# Altium schematic symbol library DRV8703QRHBRQ1.SchLib: 1 symbol
Pins are listed as number, name and electrical type; pins without a type are passive.

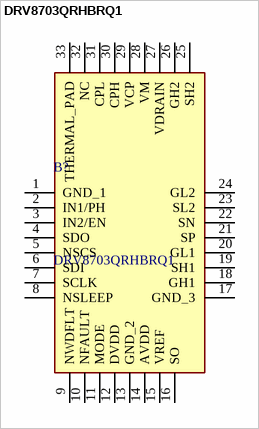
[diagram p0: symbol DRV8703QRHBRQ1]

## DRV8703QRHBRQ1
designator B?
Automotive Brushed DC Gate Driver; Manufacturer_Name: Texas Instruments; Geometry.Height: 0.9mm; Manufacturer_Part_Number: DRV8703QRHBRQ1; Mouser Part Number: 595-DRV8703QRHBRQ1; Mouser Price/Stock: https://www.mouser.co.uk/ProductDetail/Texas-Instruments/DRV8703QRHBRQ1?qs=%2FP2Ij7fVdhHVZvt8gQ%252BCWA%3D%3D; Arrow Part Number: DRV8703QRHBRQ1; Arrow Price/Stock: https://www.arrow.com/en/products/drv8703qrhbrq1/texas-instruments?region=nac; Datasheet Link: http://www.ti.com/lit/gpn/drv8703-q1
footprint QFN50P500X500X90-33N-D
pins: 1 GND_1, 2 IN1/PH, 3 IN2/EN, 4 SDO, 5 NSCS, 6 SDI, 7 SCLK, 8 NSLEEP, 9 NWDFLT, 10 NFAULT, 11 MODE, 12 DVDD, 13 GND_2, 14 AVDD, 15 VREF, 16 SO, 17 GND_3, 18 GH1, 19 SH1, 20 GL1, 21 SP, 22 SN, 23 SL2, 24 GL2, 25 SH2, 26 GH2, 27 VDRAIN, 28 VM, 29 VCP, 30 CPH, 31 CPL, 32 NC, 33 THERMAL_PAD